# Altium schematic symbol library Main Board.SCHLIB: 63 symbols (part 2 of 3)
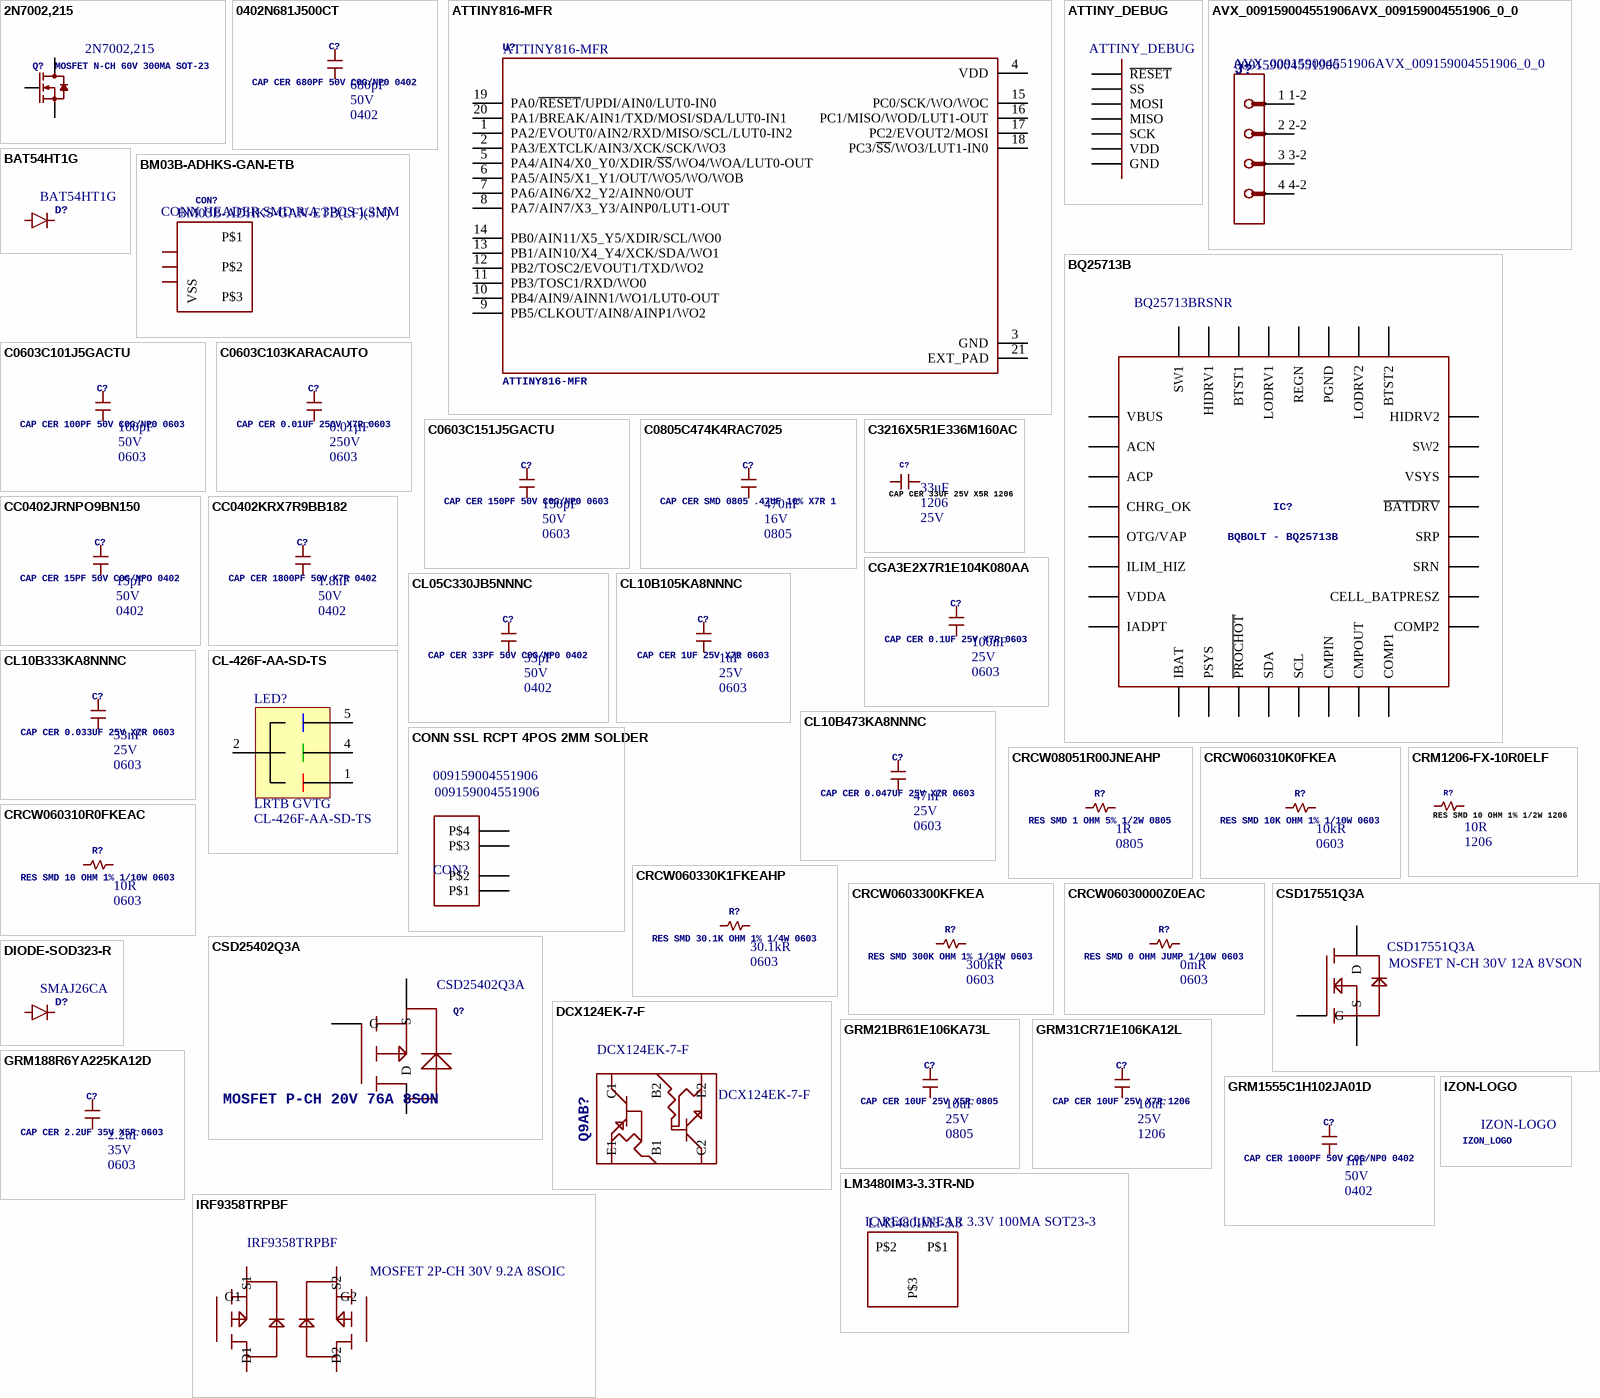
[diagram p2: symbols 2N7002,215 to LM3480IM3-3.3TR-ND]

## CSD17551Q3A
designator Q?, comment MOSFET N-CH 30V 12A 8VSON  Manufacturer Part Number: CSD17551Q3A
N-Channel 30V 12A (Tc) 2.6W (Ta) Surface Mount 8-SON (3.3x3.3); Manufacturer: Texas Instruments; Rds On Max: 9mR; Rise Time: 24ns; Fall Time: 3.4ns; Drain to Source Resistance: 9.6mR; Turn-Off Delay Time: 12ns; Turn-On Delay Time: 8ns; Number of Elements: 1; Gate to Source Voltage (Vgs): 20V; Input Capacitance: 1.37nF; Nominal Vgs: 1.6V; Supplier 1: Digi-Key; Stock 1: 23474; Pricing 1: 1 = 0.96000, 10 = 0.84000, 100 = 0.64800, 500 = 0.47998, 1000 = 0.38398 (USD); RoHS: Yes; Mount: Surface Mount; Number of Pins: 8; Contact Plating: Tin; Min Operating Temperature: -55°C; Max Operating Temperature: 150°C; Package Quantity: 1; Packaging: Tape and Reel; Drain to Source Voltage (Vdss): 30V; Continuous Drain Current (ID): 12A; Max Power Dissipation: 2.6W; Power Dissipation: 2.6W; Threshold Voltage: 1.6V; Radiation Hardening: No; Lead Free: Lead Free; REACH SVHC: Unknown; ComponentLink1URL: https://datasheet.ciiva.com/6387/csd17551q3a-6387809.pdf?src-supplier=Digi-Key; ComponentLink1Description: https://datasheet.ciiva.com/6387/csd17551q3a-6387809.pdf?src-supplier=Digi-Key; ComponentLink2URL: https://datasheet.ciiva.com/13063/csd17551q3a-109222-13063418.pdf?src-supplier=Mouser; ComponentLink2Description: https://datasheet.ciiva.com/13063/csd17551q3a-109222-13063418.pdf?src-supplier=Mouser; ComponentLink3URL: https://datasheet.ciiva.com/14192/csd17551q3a-14192907.pdf?src-supplier=Avnet; ComponentLink3Description: https://datasheet.ciiva.com/14192/csd17551q3a-14192907.pdf?src-supplier=Avnet; ComponentLink4URL: https://datasheet.ciiva.com/22656/csd17551q3a-22656093.pdf?src-supplier=Farnell; ComponentLink4Description: https://datasheet.ciiva.com/22656/csd17551q3a-22656093.pdf?src-supplier=Farnell; ComponentLink5URL: https://datasheet.ciiva.com/6387/csd17551q3a-6387807.pdf?src-supplier=Digi-Key; ComponentLink5Description: https://datasheet.ciiva.com/6387/csd17551q3a-6387807.pdf?src-supplier=Digi-Key; Supplier Part Number 1: 296-35025-1-ND
footprint TI-Q3A
pins: P$1 P$2 P$3 S, P$4 G, P$5 P$6 P$7 P$8 P$9 D

## CSD25402Q3A
designator Q?, comment MOSFET P-CH 20V 76A 8SON  Manufacturer Part Number: CSD25402Q3A
P-Channel 20V 76A (Tc) 2.8W (Ta), 69W (Tc) Surface Mount 8-VSON (3.3x3.3); Manufacturer: Texas Instruments; Rise Time: 7ns; Rds On Max: 8.9mR; Input Capacitance: 1.79nF; Continuous Drain Current (ID): 72A; Turn-On Delay Time: 10ns; Turn-Off Delay Time: 25ns; Fall Time: 12ns; Gate to Source Voltage (Vgs): -12V; Drain to Source Breakdown Voltage: -20V; Element Configuration: Single; Threshold Voltage: 900mV; Number of Channels: 1; Supplier 1: Digi-Key; Stock 1: 339924; Pricing 1: 1 = 0.93000, 10 = 0.82100, 100 = 0.64850, 500 = 0.50294, 1000 = 0.39707 (USD); RoHS: Yes; Mount: Surface Mount; Number of Pins: 8; Contact Plating: Tin; Min Operating Temperature: -55°C; Max Operating Temperature: 125°C; Package Quantity: 2500; Packaging: Tape and Reel; Drain to Source Voltage (Vdss): 20V; Max Power Dissipation: 2.8W; Drain to Source Resistance: 8.9mR; REACH SVHC: No SVHC; Lead Free: Lead Free; ComponentLink1URL: https://datasheet.ciiva.com/30021/csd25402q3a-30021955.pdf?src-supplier=Avnet; ComponentLink1Description: https://datasheet.ciiva.com/30021/csd25402q3a-30021955.pdf?src-supplier=Avnet; Supplier Part Number 1: 296-38916-1-ND
footprint TI-Q3A
pins: P$1 P$2 P$3 D, P$4 G, P$5 P$6 P$7 P$8 P$9 S

## DCX124EK-7-F
designator Q9AB?
TRANS NPN/PNP PREBIAS 0.3W SC74R; Manufacturer: Diodes; Element Configuration: Dual; Collector Emitter Voltage (VCEO): 300mV; hFE Min: 80; Max Collector Current: 100mA; Transition Frequency: 250MHz; Max Power Dissipation: 300mW; Collector Emitter Breakdown Voltage: 50V; Polarity: NPN; Continuous Collector Current: 500nA; Number of Channels: 2; Supplier 1: Digi-Key; Stock 1: 3393; Pricing 1: 1 = 0.42000, 10 = 0.31100, 100 = 0.17640, 500 = 0.11680, 1000 = 0.08955 (USD); RoHS: Yes; Mount: Surface Mount; Case/Package: SOT-26; Number of Pins: 6; Min Operating Temperature: -55°C; Max Operating Temperature: 150°C; Package Quantity: 3000; Packaging: Tape and Reel; Max Breakdown Voltage: 50V; Voltage Rating (DC): 50V; Current Rating: 100mA; Length: 3.1mm; Height: 1.3mm; Width: 1.7mm; REACH SVHC: No SVHC; Lead Free: Lead Free; ComponentLink1URL: https://datasheet.ciiva.com/16615/ds30350-16615594.pdf?src-supplier=Avnet+Europe; ComponentLink1Description: https://datasheet.ciiva.com/16615/ds30350-16615594.pdf?src-supplier=Avnet+Europe; Supplier Part Number 1: DCX124EK-FDICT-ND; Manufacturer Part Number: DCX124EK-7-F
footprint SC-74R
pins: B1, B2, C1, C2, E1, E2

## DIODE-SOD323-R
designator D?, comment Manufacturer Part Number: SMAJ26CA  (hidden comment: TVS DIODE 26V 42.1V DO214AC)
42.1V Clamp 9.5A Ipp Tvs Diode Surface Mount DO-214AC (SMA); Manufacturer: Littelfuse; Direction: Bidirectional; Min Breakdown Voltage: 28.9V; Peak Pulse Power: 400W; Number of Channels: 1; Test Current: 1mA; Power Line Protection: No; Max Breakdown Voltage: 31.9V; Max Power Dissipation: 3.3W; Leakage Current: 1uA; ComponentLink1URL: http://www.mouser.com/ds/2/115/ds30093-892620.pdf?src-supplier=Mouser; ComponentLink1Description: http://www.mouser.com/ds/2/115/ds30093-892620.pdf?src-supplier=Mouser; ComponentLink2URL: https://media.digikey.com/pdf/Data%20Sheets/Diodes%20PDFs/BZT52C2V0S-BZT52C39S.pdf?src-supplier=Digi-Key; ComponentLink2Description: https://media.digikey.com/pdf/Data%20Sheets/Diodes%20PDFs/BZT52C2V0S-BZT52C39S.pdf?src-supplier=Digi-Key; Supplier 1: Digi-Key; Stock 1: 19712; Pricing 1: 1 = 0.57000, 10 = 0.44600, 25 = 0.37600, 100 = 0.30590, 250 = 0.25348, 500 = 0.20980, 1000 = 0.15734, 2500 = 0.14423 (USD); RoHS: Yes; Mount: Surface Mount; Number of Pins: 2; Min Operating Temperature: -55°C; Max Operating Temperature: 150°C; Package Quantity: 5000; Packaging: Tape and Reel; Operating Supply Voltage: 26V; Max Surge Current: 9.5A; Reverse Standoff Voltage: 26V; Clamping Voltage: 42.1V; Breakdown Voltage: 28.9V; Polarity: Bidirectional; Peak Pulse Current: 9.5A; Voltage Rating (DC): 26V; Reverse Breakdown Voltage: 28.9V; Number of Bidirectional Channels: 1; Termination: SMD/SMT; Power Dissipation: 400W; Number of Elements: 1; Composition: Zener; Length: 5.28mm; Height: 2.29mm; Width: 2.79mm; Lead Free: Lead Free; REACH SVHC: No SVHC; ComponentLink3URL: https://datasheet.ciiva.com/331/littelfuse-tvs-diode-smaj-datasheet-pdf-331088.pdf?src-supplier=Digi-Key; ComponentLink3Description: https://datasheet.ciiva.com/331/littelfuse-tvs-diode-smaj-datasheet-pdf-331088.pdf?src-supplier=Digi-Key; ComponentLink4URL: https://datasheet.ciiva.com/331/littelfuse-tvs-diode-smaj-datasheet-pdf-331089.pdf?src-supplier=Digi-Key; ComponentLink4Description: https://datasheet.ciiva.com/331/littelfuse-tvs-diode-smaj-datasheet-pdf-331089.pdf?src-supplier=Digi-Key; ComponentLink5URL: https://datasheet.ciiva.com/4509/littelfuse-tvs-diode-smaj-23503-4509438.pdf?src-supplier=Mouser; ComponentLink5Description: https://datasheet.ciiva.com/4509/littelfuse-tvs-diode-smaj-23503-4509438.pdf?src-supplier=Mouser; ComponentLink6URL: https://datasheet.ciiva.com/331/littelfuse-tvs-diode-smaj-datasheet-pdf-331087.pdf?src-supplier=Digi-Key; ComponentLink6Description: https://datasheet.ciiva.com/331/littelfuse-tvs-diode-smaj-datasheet-pdf-331087.pdf?src-supplier=Digi-Key; Supplier Part Number 1: SMAJ26CALFCT-ND
footprint SOD323-R
pins: A, C

## GRM21BR61E106KA73L
designator C?, comment CAP CER 10UF 25V X5R 0805  Voltage Rating: 25V  Capacitance: 10uF  Case/Package: 0805
10µF ±10% 25V Ceramic Capacitor X5R 0805 (2012 Metric); Manufacturer: Murata; Manufacturer Part Number: GRM21BR61E106KA73L; Supplier 1: Digi-Key; Stock 1: 16089237; Pricing 1: 1 = 0.43000, 10 = 0.29600, 100 = 0.17730, 500 = 0.13300, 1000 = 0.11231 (USD); RoHS: Yes; Mount: Surface Mount; Case Code (Metric): 2012; Case Code (Imperial): 0805; Material: Ceramic; Min Operating Temperature: -55°C; Max Operating Temperature: 85°C; Tolerance: 10%; Dielectric: X5R; Package Quantity: 1; Packaging: Tape and Reel; Voltage Rating (DC): 25V; Termination: SMD/SMT; Voltage: 25V; Length: 2mm; Height: 1.25mm; Width: 0.049inch; Thickness: 0.053inch; Depth: 1.25mm; Radiation Hardening: No; REACH SVHC: Unknown; Lead Free: Lead Free; ComponentLink1URL: https://datasheet.ciiva.com/5424/product-5424327.pdf?src-supplier=Mouser; ComponentLink1Description: https://datasheet.ciiva.com/5424/product-5424327.pdf?src-supplier=Mouser; ComponentLink2URL: https://datasheet.ciiva.com/22774/1747469-22774396.pdf?src-supplier=Farnell; ComponentLink2Description: https://datasheet.ciiva.com/22774/1747469-22774396.pdf?src-supplier=Farnell; ComponentLink3URL: https://datasheet.ciiva.com/28584/626718-28584288.pdf?src-supplier=Element14; ComponentLink3Description: https://datasheet.ciiva.com/28584/626718-28584288.pdf?src-supplier=Element14; ComponentLink4URL: https://datasheet.ciiva.com/16440/grm21br61e106ka73l-16440627.pdf?src-supplier=Future+Electronics; ComponentLink4Description: https://datasheet.ciiva.com/16440/grm21br61e106ka73l-16440627.pdf?src-supplier=Future+Electronics; ComponentLink5URL: https://datasheet.ciiva.com/29199/454623-da-01-en-vs-kondensator-0805-29199615.pdf?src-supplier=Conrad; ComponentLink5Description: https://datasheet.ciiva.com/29199/454623-da-01-en-vs-kondensator-0805-29199615.pdf?src-supplier=Conrad; ComponentLink6URL: https://datasheet.ciiva.com/139/partnumbering-e-01-139184.pdf?src-supplier=Digi-Key; ComponentLink6Description: https://datasheet.ciiva.com/139/partnumbering-e-01-139184.pdf?src-supplier=Digi-Key; ComponentLink7URL: https://datasheet.ciiva.com/28584/626718-28584279.pdf?src-supplier=Element14; ComponentLink7Description: https://datasheet.ciiva.com/28584/626718-28584279.pdf?src-supplier=Element14; ComponentLink8URL: https://datasheet.ciiva.com/14116/grmseries-highdielectrictype-eng-14116376.pdf?src-supplier=Distrelec; ComponentLink8Description: https://datasheet.ciiva.com/14116/grmseries-highdielectrictype-eng-14116376.pdf?src-supplier=Distrelec; ComponentLink9URL: https://datasheet.ciiva.com/139/partnumbering-e-01-139182.pdf?src-supplier=Digi-Key; ComponentLink9Description: https://datasheet.ciiva.com/139/partnumbering-e-01-139182.pdf?src-supplier=Digi-Key; ComponentLink10URL: https://datasheet.ciiva.com/139/partnumbering-e-01-139183.pdf?src-supplier=Digi-Key; ComponentLink10Description: https://datasheet.ciiva.com/139/partnumbering-e-01-139183.pdf?src-supplier=Digi-Key; ComponentLink11URL: https://datasheet.ciiva.com/7719/1747469-7719093.pdf?src-supplier=Element14; ComponentLink11Description: https://datasheet.ciiva.com/7719/1747469-7719093.pdf?src-supplier=Element14; Supplier Part Number 1: 490-5523-1-ND
footprint 0805
pins: P$1, P$2

## GRM31CR71E106KA12L
designator C?, comment CAP CER 10UF 25V X7R 1206  Voltage Rating: 25V  Capacitance: 10uF  Case/Package: 1206
10µF ±10% 25V Ceramic Capacitor X7R 1206 (3216 Metric); Manufacturer: Murata; Manufacturer Part Number: GRM31CR71E106KA12L; Supplier 1: Digi-Key; Stock 1: 102559; Pricing 1: 1 = 0.90000, 10 = 0.68700, 100 = 0.49160, 500 = 0.38064, 1000 = 0.32777 (USD); RoHS: Yes; Mount: Surface Mount; Number of Pins: 2; Case Code (Imperial): 1206; Case Code (Metric): 3216; Material: Ceramic; Min Operating Temperature: -55°C; Max Operating Temperature: 125°C; Tolerance: 10%; Voltage Rating (DC): 25V; Packaging: Tape and Reel; Package Quantity: 1; Dielectric: X7R; Termination: SMD/SMT; Voltage: 25V; Length: 3.2mm; Height: 1.6mm; Width: 1.6mm; Depth: 1.6mm; Thickness: 0.071inch; Radiation Hardening: No; REACH SVHC: No SVHC; Lead Free: Lead Free; ComponentLink1URL: https://datasheet.ciiva.com/5418/product-5418961.pdf?src-supplier=Mouser; ComponentLink1Description: https://datasheet.ciiva.com/5418/product-5418961.pdf?src-supplier=Mouser; ComponentLink2URL: https://datasheet.ciiva.com/22746/415311-22746465.pdf?src-supplier=Element14; ComponentLink2Description: https://datasheet.ciiva.com/22746/415311-22746465.pdf?src-supplier=Element14; ComponentLink3URL: https://datasheet.ciiva.com/22703/1747484-22703378.pdf?src-supplier=Element14; ComponentLink3Description: https://datasheet.ciiva.com/22703/1747484-22703378.pdf?src-supplier=Element14; ComponentLink4URL: https://datasheet.ciiva.com/11789/0900766b80ef921d-11789064.pdf?src-supplier=RSComponents; ComponentLink4Description: https://datasheet.ciiva.com/11789/0900766b80ef921d-11789064.pdf?src-supplier=RSComponents; ComponentLink5URL: https://datasheet.ciiva.com/3777/4378grm31cr71e106ka1223-3777275.pdf?src-supplier=Arrow; ComponentLink5Description: https://datasheet.ciiva.com/3777/4378grm31cr71e106ka1223-3777275.pdf?src-supplier=Arrow; ComponentLink6URL: https://datasheet.ciiva.com/29199/454935-da-01-en-vs-kondensator-1206-29199424.pdf?src-supplier=Conrad; ComponentLink6Description: https://datasheet.ciiva.com/29199/454935-da-01-en-vs-kondensator-1206-29199424.pdf?src-supplier=Conrad; ComponentLink7URL: https://datasheet.ciiva.com/29202/451104-da-01-de-vs-chip-kond-1206-10-0-uf-10pr-25-0v-x7r-29202596.pdf?src-supplier=Conrad; ComponentLink7Description: https://datasheet.ciiva.com/29202/451104-da-01-de-vs-chip-kond-1206-10-0-uf-10pr-25-0v-x7r-29202596.pdf?src-supplier=Conrad; ComponentLink8URL: https://datasheet.ciiva.com/16210/partnumbering-e-01-16210776.pdf?src-supplier=Future+Electronics; ComponentLink8Description: https://datasheet.ciiva.com/16210/partnumbering-e-01-16210776.pdf?src-supplier=Future+Electronics; ComponentLink9URL: https://datasheet.ciiva.com/14116/grmseries-highdielectrictype-eng-14116377.pdf?src-supplier=Distrelec; ComponentLink9Description: https://datasheet.ciiva.com/14116/grmseries-highdielectrictype-eng-14116377.pdf?src-supplier=Distrelec; ComponentLink10URL: https://datasheet.ciiva.com/6264/partnumbering-e-01-6264458.pdf?src-supplier=Digi-Key; ComponentLink10Description: https://datasheet.ciiva.com/6264/partnumbering-e-01-6264458.pdf?src-supplier=Digi-Key; ComponentLink11URL: https://datasheet.ciiva.com/22774/415311-22774043.pdf?src-supplier=Farnell; ComponentLink11Description: https://datasheet.ciiva.com/22774/415311-22774043.pdf?src-supplier=Farnell; ComponentLink12URL: https://datasheet.ciiva.com/6264/partnumbering-e-01-6264460.pdf?src-supplier=Digi-Key; ComponentLink12Description: https://datasheet.ciiva.com/6264/partnumbering-e-01-6264460.pdf?src-supplier=Digi-Key; ComponentLink13URL: https://datasheet.ciiva.com/22774/415311-22774044.pdf?src-supplier=Farnell; ComponentLink13Description: https://datasheet.ciiva.com/22774/415311-22774044.pdf?src-supplier=Farnell; ComponentLink14URL: https://datasheet.ciiva.com/6264/partnumbering-e-01-6264462.pdf?src-supplier=Digi-Key; ComponentLink14Description: https://datasheet.ciiva.com/6264/partnumbering-e-01-6264462.pdf?src-supplier=Digi-Key; Supplier Part Number 1: 490-6518-1-ND
footprint 0805
pins: P$1, P$2

## GRM188R6YA225KA12D
designator C?, comment CAP CER 2.2UF 35V X5R 0603  Voltage Rating: 35V  Capacitance: 2.2uF  Case/Package: 0603
2.2µF ±10% 35V Ceramic Capacitor X5R 0603 (1608 Metric); Manufacturer: Murata; Manufacturer Part Number: GRM188R6YA225KA12D; Supplier 1: Digi-Key; Stock 1: 663226; Pricing 1: 1 = 0.21000, 10 = 0.14100, 100 = 0.07170, 500 = 0.04904, 1000 = 0.04338 (USD); RoHS: Yes; Mount: Surface Mount; Weight: 0.000222oz; Case Code (Metric): 1608; Case Code (Imperial): 0603; Material: Ceramic; Min Operating Temperature: -55°C; Max Operating Temperature: 85°C; Package Quantity: 4000; Packaging: Tape and Reel; Tolerance: 10%; Dielectric: X5R; Voltage: 35V; Termination: SMD/SMT; Voltage Rating (DC): 35V; Length: 1.6mm; Height: 0.8mm; Width: 0.8mm; Thickness: 0.035inch; Depth: 0.8mm; REACH SVHC: No SVHC; Lead Free: Lead Free; ComponentLink1URL: https://datasheet.ciiva.com/14906/partnumbering-e-01-14906490.pdf?src-supplier=Digi-Key; ComponentLink1Description: https://datasheet.ciiva.com/14906/partnumbering-e-01-14906490.pdf?src-supplier=Digi-Key; ComponentLink2URL: https://datasheet.ciiva.com/14906/partnumbering-e-01-14906491.pdf?src-supplier=Digi-Key; ComponentLink2Description: https://datasheet.ciiva.com/14906/partnumbering-e-01-14906491.pdf?src-supplier=Digi-Key; ComponentLink3URL: https://datasheet.ciiva.com/14906/partnumbering-e-01-14906492.pdf?src-supplier=Digi-Key; ComponentLink3Description: https://datasheet.ciiva.com/14906/partnumbering-e-01-14906492.pdf?src-supplier=Digi-Key; Supplier Part Number 1: 490-7204-1-ND
footprint 0603
pins: P$1, P$2

## GRM1555C1H102JA01D
designator C?, comment CAP CER 1000PF 50V C0G/NP0 0402  Voltage Rating: 50V  Capacitance: 1nF  Case/Package: 0402
1000pF ±5% 50V Ceramic Capacitor C0G, NP0 0402 (1005 Metric); Manufacturer: Murata; Manufacturer Part Number: GRM1555C1H102JA01D; Insulation Resistance: 10GR; Temperature Coefficient: 30ppm/°C; Supplier 1: Digi-Key; Stock 1: 6629230; Pricing 1: 1 = 0.11000, 10 = 0.07900, 100 = 0.03700, 500 = 0.02596, 1000 = 0.02149, 2500 = 0.02000, 5000 = 0.01830 (USD); RoHS: Yes; Mount: Surface Mount; Number of Pins: 2; Case Code (Metric): 1005; Case Code (Imperial): 0402; Material: Ceramic; Dielectric Material: Ceramic; Min Operating Temperature: -55°C; Max Operating Temperature: 125°C; Tolerance: 5%; Dielectric: C0G; Package Quantity: 1; Packaging: Tape and Reel; Voltage Rating (DC): 50V; Termination: SMD/SMT; Voltage: 50V; Length: 1mm; Height: 0.5mm; Width: 0.5mm; Thickness: 0.022inch; Depth: 0.5mm; Radiation Hardening: No; REACH SVHC: No SVHC; Lead Free: Lead Free; ComponentLink1URL: https://datasheet.ciiva.com/132/product-132800.pdf?src-supplier=Digi-Key; ComponentLink1Description: https://datasheet.ciiva.com/132/product-132800.pdf?src-supplier=Digi-Key; ComponentLink2URL: https://datasheet.ciiva.com/34302/1855908-34302849.pdf?src-supplier=Jameco; ComponentLink2Description: https://datasheet.ciiva.com/34302/1855908-34302849.pdf?src-supplier=Jameco; ComponentLink3URL: https://datasheet.ciiva.com/18184/getdatasheetpartid-90260-18184180.pdf?src-supplier=Verical; ComponentLink3Description: https://datasheet.ciiva.com/18184/getdatasheetpartid-90260-18184180.pdf?src-supplier=Verical; ComponentLink4URL: https://datasheet.ciiva.com/11786/0900766b807a1cab-11786727.pdf?src-supplier=RSComponents; ComponentLink4Description: https://datasheet.ciiva.com/11786/0900766b807a1cab-11786727.pdf?src-supplier=RSComponents; ComponentLink5URL: https://datasheet.ciiva.com/132/grm1555c1h102ja01-01-132799.pdf?src-supplier=Digi-Key; ComponentLink5Description: https://datasheet.ciiva.com/132/grm1555c1h102ja01-01-132799.pdf?src-supplier=Digi-Key; ComponentLink6URL: https://datasheet.ciiva.com/29200/453569-da-01-en-vs-kondensator-0402-29200121.pdf?src-supplier=Conrad; ComponentLink6Description: https://datasheet.ciiva.com/29200/453569-da-01-en-vs-kondensator-0402-29200121.pdf?src-supplier=Conrad; ComponentLink7URL: https://datasheet.ciiva.com/132/grm1555c1h102ja01-01-132801.pdf?src-supplier=Digi-Key; ComponentLink7Description: https://datasheet.ciiva.com/132/grm1555c1h102ja01-01-132801.pdf?src-supplier=Digi-Key; ComponentLink8URL: https://datasheet.ciiva.com/7828/4360-7828821.pdf?src-supplier=Element14; ComponentLink8Description: https://datasheet.ciiva.com/7828/4360-7828821.pdf?src-supplier=Element14; ComponentLink9URL: https://datasheet.ciiva.com/7828/1747436-7828822.pdf?src-supplier=Element14; ComponentLink9Description: https://datasheet.ciiva.com/7828/1747436-7828822.pdf?src-supplier=Element14; ComponentLink10URL: https://datasheet.ciiva.com/14116/grmseries-tc-hitype-eng-14116919.pdf?src-supplier=Distrelec; ComponentLink10Description: https://datasheet.ciiva.com/14116/grmseries-tc-hitype-eng-14116919.pdf?src-supplier=Distrelec; ComponentLink11URL: https://datasheet.ciiva.com/14116/grmseries-tc-hitype-eng-14116858.pdf?src-supplier=Distrelec; ComponentLink11Description: https://datasheet.ciiva.com/14116/grmseries-tc-hitype-eng-14116858.pdf?src-supplier=Distrelec; Supplier Part Number 1: 490-3244-1-ND
footprint 0402
pins: P$1, P$2

## IRF9358TRPBF
designator Q5-?, comment MOSFET 2P-CH 30V 9.2A 8SOIC  Manufacturer Part Number: IRF9358TRPBF
Mosfet Array 2 P-Channel (Dual) 30V 9.2A 2W Surface Mount 8-SO; Manufacturer: International Rectifier; Rise Time: 7.2ns; Gate to Source Voltage (Vgs): 20V; Turn-On Delay Time: 5.7ns; Turn-Off Delay Time: 146ns; Fall Time: 69ns; Rds On Max: 16.3mR; Input Capacitance: 1.74nF; Nominal Vgs: -1.8V; Drain to Source Resistance: 23.8mR; Drain to Source Breakdown Voltage: -30V; Supplier 1: Digi-Key; Stock 1: 34724; Pricing 1: 1 = 1.22000, 10 = 1.08300, 100 = 0.85580, 500 = 0.66368, 1000 = 0.52396 (USD); RoHS: Yes; Mount: Surface Mount; Case/Package: SOIC; Number of Pins: 8; Min Operating Temperature: -55°C; Max Operating Temperature: 150°C; Continuous Drain Current (ID): 9.2A; Package Quantity: 1; Packaging: Tape and Reel; Power Dissipation: 2W; Drain to Source Voltage (Vdss): 30V; Max Power Dissipation: 2W; Element Configuration: Dual; Length: 5mm; Height: 1.5mm; Width: 4mm; Radiation Hardening: No; REACH SVHC: No SVHC; ComponentLink1URL: https://datasheet.ciiva.com/4438/irf9358pbf-72620-4438704.pdf?src-supplier=Mouser; ComponentLink1Description: https://datasheet.ciiva.com/4438/irf9358pbf-72620-4438704.pdf?src-supplier=Mouser; ComponentLink2URL: https://datasheet.ciiva.com/17317/irf9358pbf-17317301.pdf?src-supplier=Avnet+Europe; ComponentLink2Description: https://datasheet.ciiva.com/17317/irf9358pbf-17317301.pdf?src-supplier=Avnet+Europe; ComponentLink3URL: https://datasheet.ciiva.com/929/irf9358pbf-929243.pdf?src-supplier=Digi-Key; ComponentLink3Description: https://datasheet.ciiva.com/929/irf9358pbf-929243.pdf?src-supplier=Digi-Key; ComponentLink4URL: https://datasheet.ciiva.com/11169/irf9358pbf-11169947.pdf?src-supplier=Avnet; ComponentLink4Description: https://datasheet.ciiva.com/11169/irf9358pbf-11169947.pdf?src-supplier=Avnet; ComponentLink5URL: https://datasheet.ciiva.com/929/irf9358pbf-929244.pdf?src-supplier=Digi-Key; ComponentLink5Description: https://datasheet.ciiva.com/929/irf9358pbf-929244.pdf?src-supplier=Digi-Key; ComponentLink6URL: https://datasheet.ciiva.com/929/irf9358pbf-929245.pdf?src-supplier=Digi-Key; ComponentLink6Description: https://datasheet.ciiva.com/929/irf9358pbf-929245.pdf?src-supplier=Digi-Key; ComponentLink7URL: https://datasheet.ciiva.com/7798/irf9358pbf-7798959.pdf?src-supplier=Element14; ComponentLink7Description: https://datasheet.ciiva.com/7798/irf9358pbf-7798959.pdf?src-supplier=Element14; Supplier Part Number 1: IRF9358TRPBFCT-ND
footprint INFENION_SO8
pins: P$1 S2, P$2 G2, P$3 S1, P$4 G1, P$5 P$6 D1, P$7 P$8 D2

## IZON-LOGO
designator LOGO?
GateName_1: G$1; SymbolName_1: IZON_LOGO; LibraryName: Roambotics; DeviceSetName: IZON-LOGO; IZON_LOGO: IZON_LOGO
footprint IZON_LOGO

## LM3480IM3-3.3TR-ND
designator U?, comment IC REG LINEAR 3.3V 100MA SOT23-3  Manufacturer Part Number: LM3480IM3-3.3
Linear Voltage Regulator IC Positive Fixed 1 Output  100mA SOT-23-3; Manufacturer: TI National Semiconductor; Max Power Dissipation: 250mW; Dropout Voltage: 900mV; Number of Outputs: 1; Max Input Voltage: 30V; Accuracy: 5%; Quiescent Current: 4mA; Supplier 1: Digi-Key; Stock 1: 12403; Pricing 1: 1 = 1.43000, 10 = 1.27600, 100 = 0.99500, 500 = 0.82194 (USD); RoHS: Yes; Mount: Surface Mount; Case/Package: SOT-23; Number of Pins: 3; Min Operating Temperature: -40°C; Max Operating Temperature: 125°C; Output Voltage: 3.3V; Packaging: Tape and Reel; Output Current: 100mA; Polarity: Positive; Output Type: Fixed; Power Dissipation: 250mW; Output Voltage Accuracy: 5%; Package Quantity: 1000; Number of Regulators: 1; Radiation Hardening: No; Lead Free: Contains Lead; ComponentLink1URL: https://datasheet.ciiva.com/13005/snvs011d-122668-13005232.pdf?src-supplier=Mouser; ComponentLink1Description: https://datasheet.ciiva.com/13005/snvs011d-122668-13005232.pdf?src-supplier=Mouser; ComponentLink2URL: https://datasheet.ciiva.com/26904/lm3480im3-3-3-26904960.pdf?src-supplier=IIIC; ComponentLink2Description: https://datasheet.ciiva.com/26904/lm3480im3-3-3-26904960.pdf?src-supplier=IIIC; ComponentLink3URL: https://datasheet.ciiva.com/6588/lm3480-6588709.pdf?src-supplier=Digi-Key; ComponentLink3Description: https://datasheet.ciiva.com/6588/lm3480-6588709.pdf?src-supplier=Digi-Key; ComponentLink4URL: https://datasheet.ciiva.com/6588/lm3480-6588712.pdf?src-supplier=Digi-Key; ComponentLink4Description: https://datasheet.ciiva.com/6588/lm3480-6588712.pdf?src-supplier=Digi-Key; ComponentLink5URL: https://datasheet.ciiva.com/6588/lm3480-6588761.pdf?src-supplier=Digi-Key; ComponentLink5Description: https://datasheet.ciiva.com/6588/lm3480-6588761.pdf?src-supplier=Digi-Key; ComponentLink6URL: https://datasheet.ciiva.com/3225/lm3480-3225406.pdf?src-supplier=Avnet; ComponentLink6Description: https://datasheet.ciiva.com/3225/lm3480-3225406.pdf?src-supplier=Avnet; Supplier Part Number 1: LM3480IM3-3.3CT-ND
footprint SOT−23 (Footprint not found)
pins: P$1, P$2, P$3

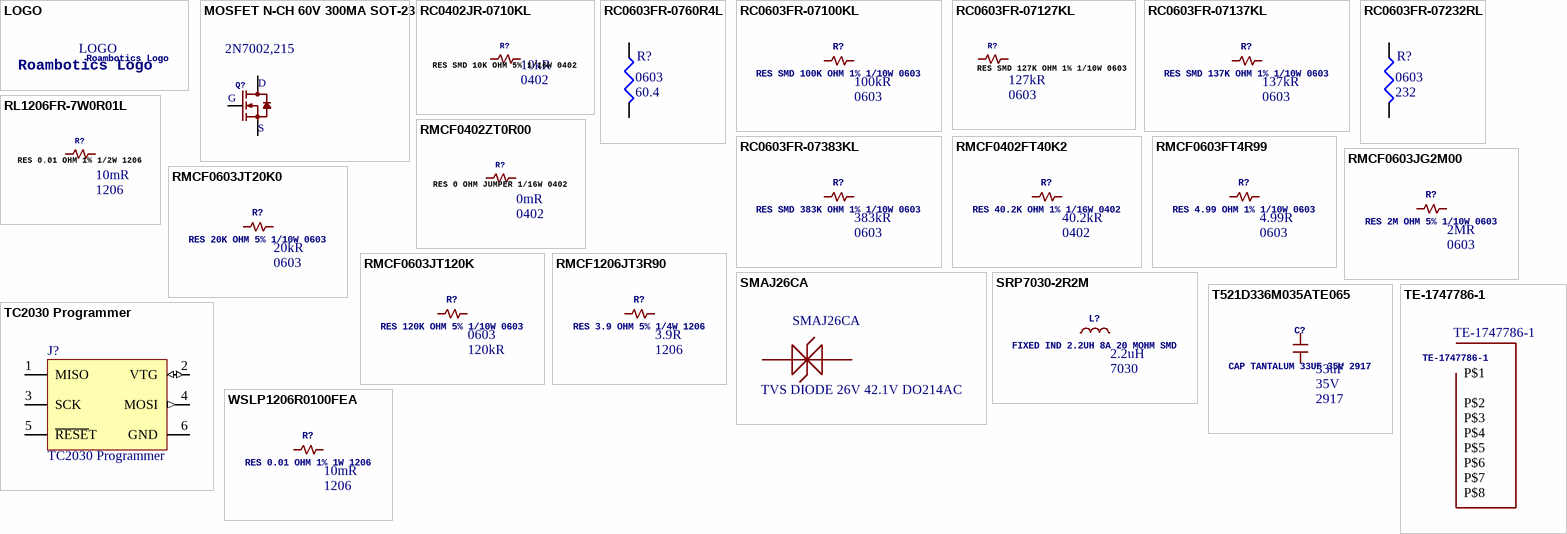
[diagram p1: symbols LOGO to WSLP1206R0100FEA]

## LOGO
designator LOGO?  RoamboticsLogo: Roambotics Logo
GateName_1: G$1; SymbolName_1: LOGO; LibraryName: Roambotics; DeviceSetName: LOGO
footprint LOGO (Footprint not found)

## MOSFET N-CH 60V 300MA SOT-23
designator Q?, comment 2N7002,215
N-Channel 60V 300mA (Ta) 830mW (Ta) Surface Mount TO-236AB; Manufacturer: NXP Semiconductors; Description: MOSFET N-CH 60V 300MA SOT-23; Gate to Source Voltage (Vgs): 30V; Input Capacitance: 50pF; Number of Elements: 1; Drain to Source Resistance: 5R; Nominal Vgs: 2V; Element Configuration: Single; Supplier 1: Digi-Key; Stock 1: 534847; Pricing 1: 1 = 0.25000, 10 = 0.22700, 100 = 0.12690, 500 = 0.06798, 1000 = 0.04623 (USD); RoHS: Yes; Case/Package: SOT; Number of Pins: 3; Weight: 0.01lb; Contact Plating: Tin; Min Operating Temperature: -65°C; Max Operating Temperature: 150°C; Continuous Drain Current (ID): 300mA; Packaging: Tape and Reel; Drain to Source Voltage (Vdss): 60V; Max Power Dissipation: 830mW; Power Dissipation: 830mW; Package Quantity: 1; Rds On Max: 5R; Max Dual Supply Voltage: 60V; Dual Supply Voltage: 60V; Drain to Source Breakdown Voltage: 60V; On-State Resistance: 5R; Threshold Voltage: 2V; Termination: SMD/SMT; Current: 300mA; Voltage: 60V; Length: 3mm; Height: 1mm; Width: 1.4mm; Radiation Hardening: No; REACH SVHC: No SVHC; Lead Free: Lead Free; ComponentLink1URL: https://datasheet.ciiva.com/934/2n7002-934480.pdf?src-supplier=Digi-Key; ComponentLink1Description: https://datasheet.ciiva.com/934/2n7002-934480.pdf?src-supplier=Digi-Key; ComponentLink2URL: https://datasheet.ciiva.com/4440/2n7002-99839-4440587.pdf?src-supplier=Mouser; ComponentLink2Description: https://datasheet.ciiva.com/4440/2n7002-99839-4440587.pdf?src-supplier=Mouser; ComponentLink3URL: https://datasheet.ciiva.com/22643/1499179-22643491.pdf?src-supplier=Farnell; ComponentLink3Description: https://datasheet.ciiva.com/22643/1499179-22643491.pdf?src-supplier=Farnell; ComponentLink4URL: https://datasheet.ciiva.com/22655/1499179-22655463.pdf?src-supplier=Element14; ComponentLink4Description: https://datasheet.ciiva.com/22655/1499179-22655463.pdf?src-supplier=Element14; ComponentLink5URL: https://datasheet.ciiva.com/25900/2n7002-25900173.pdf?src-supplier=Avnet+Europe; ComponentLink5Description: https://datasheet.ciiva.com/25900/2n7002-25900173.pdf?src-supplier=Avnet+Europe; ComponentLink6URL: https://datasheet.ciiva.com/934/2n7002-934481.pdf?src-supplier=Digi-Key; ComponentLink6Description: https://datasheet.ciiva.com/934/2n7002-934481.pdf?src-supplier=Digi-Key; ComponentLink7URL: https://datasheet.ciiva.com/33724/1499179-33724310.pdf?src-supplier=Farnell; ComponentLink7Description: https://datasheet.ciiva.com/33724/1499179-33724310.pdf?src-supplier=Farnell; ComponentLink8URL: https://datasheet.ciiva.com/33725/1499179-33725067.pdf?src-supplier=Farnell; ComponentLink8Description: https://datasheet.ciiva.com/33725/1499179-33725067.pdf?src-supplier=Farnell; ComponentLink9URL: https://datasheet.ciiva.com/36856/1499179-36856171.pdf?src-supplier=Element14; ComponentLink9Description: https://datasheet.ciiva.com/36856/1499179-36856171.pdf?src-supplier=Element14; ComponentLink10URL: https://datasheet.ciiva.com/934/2n7002-934479.pdf?src-supplier=Digi-Key; ComponentLink10Description: https://datasheet.ciiva.com/934/2n7002-934479.pdf?src-supplier=Digi-Key; Supplier Part Number 1: 1727-2764-1-ND; Manufacturer Part Number: 2N7002,215
footprint SOT-23
pins: 1 G, 2 S, 3 D

## RC0402JR-0710KL
designator R?, comment RES SMD 10K OHM 5% 1/16W 0402  Resistance: 10kR  Case/Package: 0402
10 kOhms ±5% 0.063W, 1/16W Chip Resistor 0402 (1005 Metric) Moisture Resistant Thick Film; Manufacturer: Yageo; Manufacturer Part Number: RC0402JR-0710KL; Temperature Coefficient: 100ppm/°C; Power Rating: 62.5mW; Max Power Dissipation: 63mW; Voltage Rating: 50V; Supplier 1: Digi-Key; Description: RES SMD 10K OHM 5% 1/16W 0402; Stock 1: 36919395; Pricing 1: 1 = 0.10000, 10 = 0.01300, 100 = 0.00550, 1000 = 0.00245, 2500 = 0.00212, 5000 = 0.00176 (USD); RoHS: Yes; Case Code (Metric): 1005; Case Code (Imperial): 0402; Min Operating Temperature: -55°C; Max Operating Temperature: 155°C; Tolerance: 5%; Packaging: Tape and Reel; Package Quantity: 1; Composition: Thick Film; Number of Terminations: 2; Termination: SMD/SMT; Military Standard: Not; Features: Moisture Resistant; Length: 1mm; Height: 0.016inch; Width: 0.02inch; Depth: 0.5mm; REACH SVHC: Unknown; Lead Free: Lead Free; ComponentLink1URL: https://datasheet.ciiva.com/2452/pyu-r-int-thick-7-2452626.pdf?src-supplier=Digi-Key; ComponentLink1Description: https://datasheet.ciiva.com/2452/pyu-r-int-thick-7-2452626.pdf?src-supplier=Digi-Key; ComponentLink2URL: https://datasheet.ciiva.com/2452/pyu-r-int-thick-7-2452627.pdf?src-supplier=Digi-Key; ComponentLink2Description: https://datasheet.ciiva.com/2452/pyu-r-int-thick-7-2452627.pdf?src-supplier=Digi-Key; ComponentLink3URL: https://datasheet.ciiva.com/2452/pyu-r-int-thick-7-2452628.pdf?src-supplier=Digi-Key; ComponentLink3Description: https://datasheet.ciiva.com/2452/pyu-r-int-thick-7-2452628.pdf?src-supplier=Digi-Key; ComponentLink4URL: https://datasheet.ciiva.com/12669/pyu-rc0402-51-rohs-l-6-r-12669687.pdf?src-supplier=Mouser; ComponentLink4Description: https://datasheet.ciiva.com/12669/pyu-rc0402-51-rohs-l-6-r-12669687.pdf?src-supplier=Mouser; ComponentLink5URL: https://datasheet.ciiva.com/7850/1018594-7850136.pdf?src-supplier=Element14; ComponentLink5Description: https://datasheet.ciiva.com/7850/1018594-7850136.pdf?src-supplier=Element14; ComponentLink6URL: https://datasheet.ciiva.com/7850/1018594-7850137.pdf?src-supplier=Element14; ComponentLink6Description: https://datasheet.ciiva.com/7850/1018594-7850137.pdf?src-supplier=Element14; Supplier Part Number 1: 311-10KJRCT-ND
footprint 0402
pins: P$1, P$2

## RC0603FR-0760R4L
designator R?, comment Package / Case: 0603  Resistance (Ohms): 60.4  (hidden comment: RES SMD 60.4 OHM 1% 1/10W 0603)
60.4 Ohms ±1% 0.1W, 1/10W Chip Resistor 0603 (1608 Metric) Moisture Resistant Thick Film; Manufacturer: Yageo; Manufacturer Part Number: RC0603FR-0760R4L; Temperature Coefficient: ±100ppm/°C; Supplier 1: Digi-Key; RoHS: RoHS Compliant; Category: Resistors; Stock 1: 67421; Pricing 1: 1=0.1, 10=0.013, 25=0.0092, 50=0.007, 100=0.0052, 250=0.00396, 500=0.00316, 1000=0.00233 (USD); Packaging: Digi-Reel®; Composition: Thick Film; Features: Moisture Resistant; Operating Temperature: -55°C ~ 155°C; Supplier Device Package: 0603; Size / Dimension: 0.063" L x 0.031" W (1.60mm x 0.80mm); ComponentLink1URL: http://www.yageo.com/documents/recent/PYu-RC_Group_51_RoHS_L_6.pdf; ComponentLink1Description: http://www.yageo.com/documents/recent/PYu-RC_Group_51_RoHS_L_6.pdf; Supplier Part Number 1: 311-60.4HRDKR-ND; Tolerance: ±1%; Power (Watts): 0.1W, 1/10W; Part Status: Active; Height - Seated (Max): 0.022" (0.55mm); Failure Rate: -
footprint 0603
pins: P$1 1, P$2 2

## RC0603FR-07100KL
designator R?, comment RES SMD 100K OHM 1% 1/10W 0603  Case/Package: 0603  Resistance: 100kR
100 kOhms ±1% 0.1W, 1/10W Chip Resistor 0603 (1608 Metric) Moisture Resistant Thick Film; Manufacturer: Yageo; Manufacturer Part Number: RC0603FR-07100KL; Temperature Coefficient: 100ppm/°C; Voltage Rating (DC): 50V; Power Rating: 100mW; Working Voltage: 75V; Supplier 1: Digi-Key; Stock 1: 51668804; Pricing 1: 1 = 0.10000, 10 = 0.02400, 100 = 0.00970, 1000 = 0.00437, 2500 = 0.00379 (USD); RoHS: Yes; Number of Pins: 2; Case Code (Imperial): 0603; Case Code (Metric): 1608; Min Operating Temperature: -55°C; Max Operating Temperature: 155°C; Tolerance: 1%; Composition: Thick Film; Packaging: Tape and Reel; Voltage Rating: 50V; Termination: SMD/SMT; Military Standard: Not; Number of Terminations: 2; Length: 1.6mm; Height: 0.45mm; Width: 0.8mm; Depth: 0.8mm; REACH SVHC: No SVHC; Lead Free: Lead Free; ComponentLink1URL: https://datasheet.ciiva.com/11808/0900766b80f96399-11808107.pdf?src-supplier=RSComponents; ComponentLink1Description: https://datasheet.ciiva.com/11808/0900766b80f96399-11808107.pdf?src-supplier=RSComponents; ComponentLink2URL: https://datasheet.ciiva.com/7983/443971-7983593.pdf?src-supplier=Element14; ComponentLink2Description: https://datasheet.ciiva.com/7983/443971-7983593.pdf?src-supplier=Element14; ComponentLink3URL: https://datasheet.ciiva.com/46440/1868787-46440889.pdf?src-supplier=Element14; ComponentLink3Description: https://datasheet.ciiva.com/46440/1868787-46440889.pdf?src-supplier=Element14; ComponentLink4URL: https://datasheet.ciiva.com/7746/1738695-7746234.pdf?src-supplier=Element14; ComponentLink4Description: https://datasheet.ciiva.com/7746/1738695-7746234.pdf?src-supplier=Element14; ComponentLink5URL: https://datasheet.ciiva.com/7746/1738695-7746235.pdf?src-supplier=Element14; ComponentLink5Description: https://datasheet.ciiva.com/7746/1738695-7746235.pdf?src-supplier=Element14; ComponentLink6URL: https://datasheet.ciiva.com/22747/443971-22747516.pdf?src-supplier=Element14; ComponentLink6Description: https://datasheet.ciiva.com/22747/443971-22747516.pdf?src-supplier=Element14; Supplier Part Number 1: 311-100KHRCT-ND
footprint 0603
pins: P$1, P$2

## RC0603FR-07127KL
designator R?, comment RES SMD 127K OHM 1% 1/10W 0603  Resistance: 127kR  Case/Package: 0603
127 kOhms ±1% 0.1W, 1/10W Chip Resistor 0603 (1608 Metric) Moisture Resistant Thick Film; Manufacturer: Yageo; Manufacturer Part Number: RC0603FR-07127KL; Power Rating: 100mW; Voltage Rating: 50V; Temperature Coefficient: 100ppm/°C; Working Voltage: 75V; Supplier 1: Digi-Key; Description: RES SMD 127K OHM 1% 1/10W 0603; Stock 1: 339894; Pricing 1: 1 = 0.10000, 10 = 0.02400, 100 = 0.00970, 1000 = 0.00437, 2500 = 0.00379 (USD); RoHS: Yes; Case Code (Metric): 1608; Case Code (Imperial): 0603; Min Operating Temperature: -55°C; Max Operating Temperature: 155°C; Tolerance: 1%; Packaging: Tape and Reel; Package Quantity: 1; Composition: Thick Film; Number of Terminations: 2; Termination: SMD/SMT; Military Standard: Not; Max Power Dissipation: 100mW; Voltage Rating (DC): 50V; Features: Moisture Resistant; Length: 1.6mm; Height: 0.022inch; Width: 0.031inch; Depth: 0.8mm; Lead Free: Lead Free; ComponentLink1URL: https://datasheet.ciiva.com/2454/pyu-r-int-thick-7-2454642.pdf?src-supplier=Digi-Key; ComponentLink1Description: https://datasheet.ciiva.com/2454/pyu-r-int-thick-7-2454642.pdf?src-supplier=Digi-Key; ComponentLink2URL: https://datasheet.ciiva.com/2454/pyu-r-int-thick-7-2454643.pdf?src-supplier=Digi-Key; ComponentLink2Description: https://datasheet.ciiva.com/2454/pyu-r-int-thick-7-2454643.pdf?src-supplier=Digi-Key; ComponentLink3URL: https://datasheet.ciiva.com/2454/pyu-r-int-thick-7-2454644.pdf?src-supplier=Digi-Key; ComponentLink3Description: https://datasheet.ciiva.com/2454/pyu-r-int-thick-7-2454644.pdf?src-supplier=Digi-Key; Supplier Part Number 1: 311-127KHRCT-ND
footprint 0603
pins: P$1, P$2

## RC0603FR-07137KL
designator R?, comment RES SMD 137K OHM 1% 1/10W 0603  Case/Package: 0603  Resistance: 137kR
137 kOhms ±1% 0.1W, 1/10W Chip Resistor 0603 (1608 Metric) Moisture Resistant Thick Film; Manufacturer: Yageo; Manufacturer Part Number: RC0603FR-07137KL; Power Rating: 100mW; Voltage Rating: 50V; Temperature Coefficient: 100ppm/°C; Supplier 1: Digi-Key; Stock 1: 581029; Pricing 1: 1 = 0.10000, 10 = 0.02400, 100 = 0.00970, 1000 = 0.00437, 2500 = 0.00379 (USD); RoHS: Yes; Mount: Surface Mount; Case Code (Imperial): 0603; Case Code (Metric): 1608; Min Operating Temperature: -55°C; Max Operating Temperature: 155°C; Tolerance: 1%; Packaging: Tape and Reel; Package Quantity: 5000; Termination: SMD/SMT; Composition: Thick Film; Military Standard: Not; Voltage Rating (DC): 50V; Length: 1.6mm; Height: 0.45mm; Width: 0.8mm; Depth: 0.8mm; Lead Free: Lead Free; ComponentLink1URL: https://datasheet.ciiva.com/11809/0900766b80f96399-11809248.pdf?src-supplier=RSComponents; ComponentLink1Description: https://datasheet.ciiva.com/11809/0900766b80f96399-11809248.pdf?src-supplier=RSComponents; ComponentLink2URL: https://datasheet.ciiva.com/12558/rc0603-272842-12558943.pdf?src-supplier=Mouser; ComponentLink2Description: https://datasheet.ciiva.com/12558/rc0603-272842-12558943.pdf?src-supplier=Mouser; Supplier Part Number 1: 311-137KHRCT-ND
footprint 0603
pins: P$1, P$2

## RC0603FR-07232RL
designator R?, comment Package / Case: 0603  Resistance (Ohms): 232  (hidden comment: RES SMD 232 OHM 1% 1/10W 0603)
232 Ohms ±1% 0.1W, 1/10W Chip Resistor 0603 (1608 Metric) Moisture Resistant Thick Film; Manufacturer: Yageo; Manufacturer Part Number: RC0603FR-07232RL; Temperature Coefficient: ±100ppm/°C; Supplier 1: Digi-Key; RoHS: RoHS Compliant; Category: Resistors; Stock 1: 19049; Pricing 1: 1=0.1, 10=0.013, 25=0.0092, 50=0.007, 100=0.0052, 250=0.00396, 500=0.00316, 1000=0.00233 (USD); Packaging: Digi-Reel®; Composition: Thick Film; Features: Moisture Resistant; Operating Temperature: -55°C ~ 155°C; Supplier Device Package: 0603; Size / Dimension: 0.063" L x 0.031" W (1.60mm x 0.80mm); ComponentLink1URL: http://www.yageo.com/documents/recent/PYu-RC_Group_51_RoHS_L_6.pdf; ComponentLink1Description: http://www.yageo.com/documents/recent/PYu-RC_Group_51_RoHS_L_6.pdf; Supplier Part Number 1: 311-232HRDKR-ND; Tolerance: ±1%; Power (Watts): 0.1W, 1/10W; Part Status: Active; Height - Seated (Max): 0.022" (0.55mm); Failure Rate: -
footprint 0603
pins: P$1 1, P$2 2

## RC0603FR-07383KL
designator R?, comment RES SMD 383K OHM 1% 1/10W 0603  Case/Package: 0603  Resistance: 383kR
383 kOhms ±1% 0.1W, 1/10W Chip Resistor 0603 (1608 Metric) Moisture Resistant Thick Film; Manufacturer: Yageo; Manufacturer Part Number: RC0603FR-07383KL; Voltage Rating: 75V; Power Rating: 100mW; Temperature Coefficient: 100ppm/°C; Voltage Rating (DC): 50V; Supplier 1: Digi-Key; Stock 1: 541343; Pricing 1: 1 = 0.10000, 10 = 0.02400, 100 = 0.00970, 1000 = 0.00437, 2500 = 0.00379 (USD); RoHS: Yes; Weight: 7.1E-05oz; Case Code (Imperial): 0603; Case Code (Metric): 1608; Min Operating Temperature: -55°C; Max Operating Temperature: 155°C; Tolerance: 1%; Packaging: Tape and Reel; Package Quantity: 1; Termination: SMD/SMT; Composition: Thick Film; Number of Terminations: 2; Military Standard: Not; Max Power Dissipation: 100mW; Features: Moisture Resistant; Length: 1.6mm; Height: 0.022inch; Width: 0.8mm; Depth: 0.8mm; Lead Free: Lead Free; ComponentLink1URL: https://datasheet.ciiva.com/2454/pyu-r-int-thick-7-2454780.pdf?src-supplier=Digi-Key; ComponentLink1Description: https://datasheet.ciiva.com/2454/pyu-r-int-thick-7-2454780.pdf?src-supplier=Digi-Key; ComponentLink2URL: https://datasheet.ciiva.com/2454/pyu-r-int-thick-7-2454781.pdf?src-supplier=Digi-Key; ComponentLink2Description: https://datasheet.ciiva.com/2454/pyu-r-int-thick-7-2454781.pdf?src-supplier=Digi-Key; ComponentLink3URL: https://datasheet.ciiva.com/2454/pyu-r-int-thick-7-2454782.pdf?src-supplier=Digi-Key; ComponentLink3Description: https://datasheet.ciiva.com/2454/pyu-r-int-thick-7-2454782.pdf?src-supplier=Digi-Key; Supplier Part Number 1: 311-383KHRCT-ND
footprint 0603
pins: P$1, P$2

## RL1206FR-7W0R01L
designator R?, comment RES 0.01 OHM 1% 1/2W 1206  Resistance: 10mR  Case/Package: 1206
10 mOhms ±1% 0.5W, 1/2W Chip Resistor 1206 (3216 Metric) Automotive AEC-Q200, Current Sense, Moisture Resistant Thick Film; Manufacturer: Yageo; Manufacturer Part Number: RL1206FR-7W0R01L; Description: YAGEO (PHYCOMP)         RL1206FR-7W0R01L             SMD Chip Resistor, Thick Film, 0.01 ohm, 200 V, 1206 [3216 Metric], 500 mW,  1%, RL Series; Power Rating: 250mW; Voltage Rating: 200V; Temperature Coefficient: 800ppm/°C; Supplier 1: Digi-Key; Stock 1: 30960; Pricing 1: 1 = 0.67000, 10 = 0.49200, 100 = 0.28660, 1000 = 0.16074, 2500 = 0.15518 (USD); RoHS: Yes; Case Code (Imperial): 1206; Case Code (Metric): 3216; Min Operating Temperature: -55°C; Max Operating Temperature: 155°C; Tolerance: 1%; Packaging: Tape and Reel; Composition: Thick Film; Termination: SMD/SMT; Length: 3.1mm; Height: 0.55mm; Width: 1.6mm; REACH SVHC: Unknown; ComponentLink1URL: https://datasheet.ciiva.com/7857/1693483-7857580.pdf?src-supplier=Element14; ComponentLink1Description: https://datasheet.ciiva.com/7857/1693483-7857580.pdf?src-supplier=Element14; ComponentLink2URL: https://datasheet.ciiva.com/7857/1693483-7857581.pdf?src-supplier=Element14; ComponentLink2Description: https://datasheet.ciiva.com/7857/1693483-7857581.pdf?src-supplier=Element14; Supplier Part Number 1: 311-.01LYCT-ND
footprint 1206
pins: P$1, P$2

## RMCF0402FT40K2
designator R?, comment RES 40.2K OHM 1% 1/16W 0402  Resistance: 40.2kR  Case/Package: 0402
40.2 kOhms ±1% 0.063W, 1/16W Chip Resistor 0402 (1005 Metric) Automotive AEC-Q200 Thick Film; Manufacturer: Stackpole Electronics; Manufacturer Part Number: RMCF0402FT40K2; Max Power Dissipation: 63mW; Temperature Coefficient: 100ppm/°C; Supplier 1: Digi-Key; Stock 1: 98093; Pricing 1: 1 = 0.10000, 10 = 0.01500, 100 = 0.00610, 1000 = 0.00275, 2500 = 0.00239, 5000 = 0.00198 (USD); RoHS: Yes; Mount: Surface Mount; Case Code (Metric): 1005; Case Code (Imperial): 0402; Contact Plating: Tin; Min Operating Temperature: -55°C; Max Operating Temperature: 155°C; Tolerance: 1%; Packaging: Tape and Reel; Composition: Thick Film; Number of Terminations: 2; Features: Automotive AEC-Q200; Length: 0.039inch; Height: 0.016inch; Width: 0.02inch; Radiation Hardening: No; Lead Free: Lead Free; ComponentLink1URL: https://www.seielect.com/catalog/SEI-Packaging.pdf?src-supplier=Digi-Key; ComponentLink1Description: https://www.seielect.com/catalog/SEI-Packaging.pdf?src-supplier=Digi-Key; ComponentLink2URL: https://www.seielect.com/catalog/SEI-RMCF_RMCP.pdf?src-supplier=Avnet; ComponentLink2Description: https://www.seielect.com/catalog/SEI-RMCF_RMCP.pdf?src-supplier=Avnet; ComponentLink3URL: http://components.arrow.com/part/dataview/50863704S9798453N1174?src-supplier=Arrow; ComponentLink3Description: http://components.arrow.com/part/dataview/50863704S9798453N1174?src-supplier=Arrow; Supplier Part Number 1: RMCF0402FT40K2CT-ND
footprint 0402
pins: P$1, P$2

## RMCF0402ZT0R00
designator R?, comment RES 0 OHM JUMPER 1/16W 0402  Resistance: 0mR  Case/Package: 0402
0 Ohms Jumper 0.063W, 1/16W Chip Resistor 0402 (1005 Metric) Automotive AEC-Q200 Thick Film; Manufacturer: Stackpole Electronics; Manufacturer Part Number: RMCF0402ZT0R00; Power Rating: 63mW; Current Rating: 1A; Working Voltage: 50V; Supplier 1: Digi-Key; Description: RES 0 OHM JUMPER 1/16W 0402; Stock 1: 2822140; Pricing 1: 1 = 0.10000, 10 = 0.01200, 25 = 0.00880, 50 = 0.00680, 100 = 0.00500, 250 = 0.00380, 500 = 0.00304, 1000 = 0.00224, 5000 = 0.00161 (USD); RoHS: Yes; Mount: Surface Mount; Case Code (Metric): 1005; Case Code (Imperial): 0402; Contact Plating: Tin; Min Operating Temperature: -55°C; Max Operating Temperature: 155°C; Packaging: Tape and Reel; Composition: Thick Film; Number of Terminations: 2; Military Standard: Not; Max Power Dissipation: 63mW; Features: Automotive AEC-Q200; Length: 0.039inch; Height: 0.016inch; Width: 0.02inch; Depth: 0.5mm; Radiation Hardening: No; Lead Free: Lead Free; ComponentLink1URL: https://datasheet.ciiva.com/26835/getdatasheetpartid-409751-26835612.pdf?src-supplier=Verical; ComponentLink1Description: https://datasheet.ciiva.com/26835/getdatasheetpartid-409751-26835612.pdf?src-supplier=Verical; Supplier Part Number 1: RMCF0402ZT0R00CT-ND
footprint 0402
pins: P$1, P$2

## RMCF0603FT4R99
designator R?, comment RES 4.99 OHM 1% 1/10W 0603  Case/Package: 0603  Resistance: 4.99R
4.99 Ohms ±1% 0.1W, 1/10W Chip Resistor 0603 (1608 Metric) Automotive AEC-Q200 Thick Film; Manufacturer: Stackpole Electronics; Manufacturer Part Number: RMCF0603FT4R99; Max Power Dissipation: 100mW; Temperature Coefficient: 200ppm/°C; Supplier 1: Digi-Key; Stock 1: 147056; Pricing 1: 1 = 0.10000, 10 = 0.02500, 100 = 0.01020, 1000 = 0.00459, 2500 = 0.00398 (USD); RoHS: Yes; Mount: Surface Mount; Case Code (Metric): 1608; Case Code (Imperial): 0603; Contact Plating: Tin; Min Operating Temperature: -55°C; Max Operating Temperature: 155°C; Packaging: Tape and Reel; Tolerance: 1%; Composition: Thick Film; Number of Terminations: 2; Features: Automotive AEC-Q200; Length: 0.061inch; Height: 0.022inch; Width: 0.031inch; Radiation Hardening: No; Lead Free: Lead Free; ComponentLink1URL: https://www.seielect.com/catalog/SEI-RMCF_RMCP.pdf?src-supplier=Avnet; ComponentLink1Description: https://www.seielect.com/catalog/SEI-RMCF_RMCP.pdf?src-supplier=Avnet; ComponentLink2URL: https://www.seielect.com/catalog/sei-rmcf_rmcp.pdf?src-supplier=Digi-Key; ComponentLink2Description: https://www.seielect.com/catalog/sei-rmcf_rmcp.pdf?src-supplier=Digi-Key; Supplier Part Number 1: RMCF0603FT4R99CT-ND
footprint 0603
pins: P$1, P$2

## RMCF0603JG2M00
designator R?, comment RES 2M OHM 5% 1/10W 0603  Case/Package: 0603  Resistance: 2MR
2 MOhms ±5% 0.1W, 1/10W Chip Resistor 0603 (1608 Metric) Automotive AEC-Q200 Thick Film; Manufacturer: Stackpole Electronics; Manufacturer Part Number: RMCF0603JG2M00; Max Power Dissipation: 100mW; Temperature Coefficient: 200ppm/°C; Supplier 1: Digi-Key; Stock 1: 6144; Pricing 1: 1 = 0.10000, 10 = 0.01500, 100 = 0.00610, 1000 = 0.00275, 2500 = 0.00239, 5000 = 0.00198 (USD); RoHS: Yes; Mount: Surface Mount; Case Code (Metric): 1608; Case Code (Imperial): 0603; Contact Plating: Tin; Min Operating Temperature: -55°C; Max Operating Temperature: 155°C; Packaging: Tape and Reel; Tolerance: 5%; Package Quantity: 10000; Composition: Thick Film; Number of Terminations: 2; Features: Automotive AEC-Q200; Length: 0.061inch; Height: 0.022inch; Width: 0.031inch; Radiation Hardening: No; ComponentLink1URL: https://www.seielect.com/catalog/SEI-RMCF_RMCP.pdf?src-supplier=Avnet; ComponentLink1Description: https://www.seielect.com/catalog/SEI-RMCF_RMCP.pdf?src-supplier=Avnet; ComponentLink2URL: https://www.seielect.com/Catalog/SEI-RMCF_RMCP.pdf?src-supplier=Digi-Key; ComponentLink2Description: https://www.seielect.com/Catalog/SEI-RMCF_RMCP.pdf?src-supplier=Digi-Key; Supplier Part Number 1: RMCF0603JG2M00CT-ND
footprint 0603
pins: P$1, P$2

## RMCF0603JT20K0
designator R?, comment RES 20K OHM 5% 1/10W 0603  Case/Package: 0603  Resistance: 20kR
20 kOhms ±5% 0.1W, 1/10W Chip Resistor 0603 (1608 Metric) Automotive AEC-Q200 Thick Film; Manufacturer: Stackpole Electronics; Manufacturer Part Number: RMCF0603JT20K0; Power Rating: 100mW; Temperature Coefficient: 100ppm/°C; Supplier 1: Digi-Key; Stock 1: 63686; Pricing 1: 1 = 0.10000, 10 = 0.01500, 100 = 0.00610, 1000 = 0.00275, 2500 = 0.00239 (USD); RoHS: Yes; Mount: Surface Mount; Case Code (Metric): 1608; Case Code (Imperial): 0603; Contact Plating: Tin; Min Operating Temperature: -55°C; Max Operating Temperature: 155°C; Tolerance: 5%; Packaging: Tape and Reel; Composition: Thick Film; Number of Terminations: 2; Military Standard: Not; Max Power Dissipation: 100mW; Features: Automotive AEC-Q200; Length: 0.061inch; Height: 0.022inch; Width: 0.031inch; Depth: 0.8mm; Radiation Hardening: No; Lead Free: Lead Free; ComponentLink1URL: http://components.arrow.com/part/dataview/40962070S7654859N1174?src-supplier=Arrow; ComponentLink1Description: http://components.arrow.com/part/dataview/40962070S7654859N1174?src-supplier=Arrow; ComponentLink2URL: https://www.seielect.com/Catalog/SEI-RMCF_RMCP.pdf?src-supplier=Digi-Key; ComponentLink2Description: https://www.seielect.com/Catalog/SEI-RMCF_RMCP.pdf?src-supplier=Digi-Key; ComponentLink3URL: https://www.seielect.com/catalog/SEI-Packaging.pdf?src-supplier=Digi-Key; ComponentLink3Description: https://www.seielect.com/catalog/SEI-Packaging.pdf?src-supplier=Digi-Key; ComponentLink4URL: https://www.seielect.com/catalog/SEI-RMCF_RMCP.pdf?src-supplier=Avnet; ComponentLink4Description: https://www.seielect.com/catalog/SEI-RMCF_RMCP.pdf?src-supplier=Avnet; ComponentLink5URL: http://www.seielect.com/catalog/sei-rmc.pdf?src-supplier=Future+Electronics; ComponentLink5Description: http://www.seielect.com/catalog/sei-rmc.pdf?src-supplier=Future+Electronics; ComponentLink6URL: https://www.verical.com/server-webapp/html/getDatasheet?partID=493746&src-supplier=Verical; ComponentLink6Description: https://www.verical.com/server-webapp/html/getDatasheet?partID=493746&src-supplier=Verical; Supplier Part Number 1: RMCF0603JT20K0CT-ND
footprint 0603
pins: P$1, P$2